# Altium footprint library 015403P5DRT.PcbLib: 1 footprints
Each footprint in its own frame and in the unit in brackets; x right, y up, seen from the top. Pads: shape width x height; smd on the part's side, far side on the other; paste and mask are expansions set on the pad; w line width, h text height; cw(c..) or ccw(c..) is an arc to the next point about the centre after c.
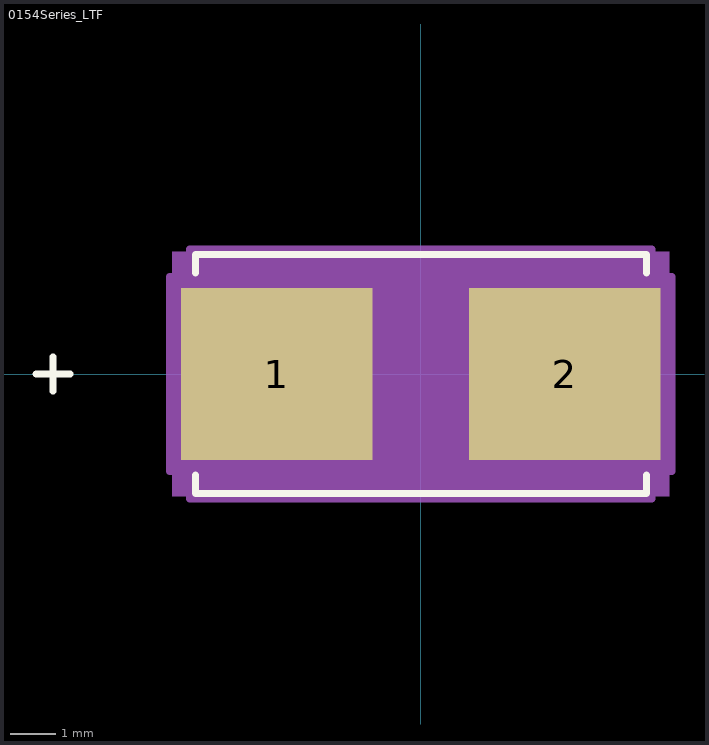
[diagram p0: the footprint, top view; thin cyan lines are the x and y axes]

## 0154Series_LTF [mil]
pads (2):
  rect 167x150 smd paste+0 mask+0: 1(-125.5,0) 2(125.5,0)
Top Overlay:
  lines w6: -335.5,0 -305.5,0 ; -320.5,-15 -320.5,15 ; -196.5,-88.1 -196.5,-104 196.5,-104 196.5,-88.1 ; -196.5,88.1 -196.5,104 196.5,104 196.5,88.1
Mechanical 5:
  region: 216.5,-106.5 -216.5,-106.5 -216.5,106.5 216.5,106.5
Mechanical 13:
  lines w1: -335.5,0 -305.5,0 ; -320.5,-15 -320.5,15 ; -191.5,-99 191.5,-99 191.5,99 -191.5,99 -191.5,-99
Mechanical 15:
  region: -201.5,-85 -219,-85 -219,85 -201.5,85 -201.5,109 201.5,109 201.5,85 219,85 219,-85 201.5,-85 201.5,-109 -201.5,-109
  lines w6: -219,-85 -219,85 -201.5,85 -201.5,109 201.5,109 201.5,85 219,85 219,-85 201.5,-85 201.5,-109 -201.5,-109 -201.5,-85 -219,-85
3D body "0154Series_LTF.step": height 152.01, standoff 0, extent -191.5,-99.02 191.5,99.02